# EAGLE library part ESP32 (library InternetRadio)
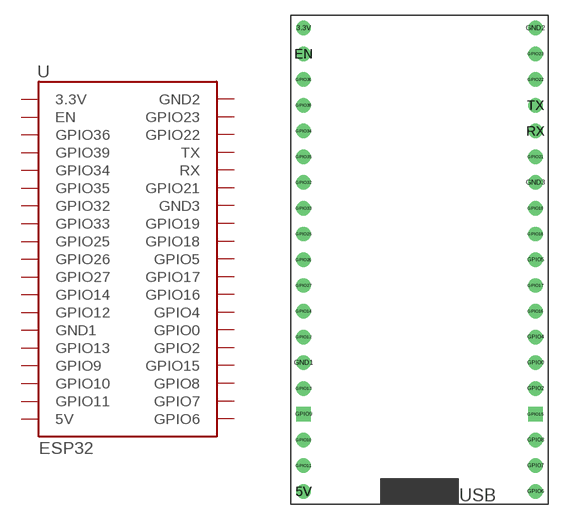
[diagram p1: symbol with the pads of ESP32; footprint ESP32]

Designator prefix -

## ESP32  [ESP32]
3.3V  3.3V
5V  5V
EN  EN
GND1  GND1
GND2  GND2
GND3  GND3
GPIO0  GPIO0
GPIO2  GPIO2
GPIO4  GPIO4
GPIO5  GPIO5
GPIO6  GPIO6
GPIO7  GPIO7
GPIO8  GPIO8
GPIO9  GPIO9
GPIO10  GPIO10
GPIO11  GPIO11
GPIO12  GPIO12
GPIO13  GPIO13
GPIO14  GPIO14
GPIO15  GPIO15
GPIO16  GPIO16
GPIO17  GPIO17
GPIO18  GPIO18
GPIO19  GPIO19
GPIO21  GPIO21
GPIO22  GPIO22
GPIO23  GPIO23
GPIO25  GPIO25
GPIO26  GPIO26
GPIO27  GPIO27
GPIO32  GPIO32
GPIO33  GPIO33
GPIO34  GPIO34
GPIO35  GPIO35
GPIO36  GPIO36
GPIO39  GPIO39
RX  RX
TX  TX

## Footprint ESP32 (pad centres in mm)
drill 0.914: 3.3V -11.43,21.59; 5V -11.43,-24.13; EN -11.43,19.05; GND1 -11.43,-11.43; GND2 11.43,21.59; GND3 11.43,6.35; GPIO0 11.43,-11.43; GPIO2 11.43,-13.97; GPIO4 11.43,-8.89; GPIO5 11.43,-1.27; GPIO6 11.43,-24.13; GPIO7 11.43,-21.59; GPIO8 11.43,-19.05; GPIO10 -11.43,-19.05; GPIO11 -11.43,-21.59; GPIO12 -11.43,-8.89; GPIO13 -11.43,-13.97; GPIO14 -11.43,-6.35; GPIO16 11.43,-6.35; GPIO17 11.43,-3.81; GPIO18 11.43,1.27; GPIO19 11.43,3.81; GPIO21 11.43,8.89; GPIO22 11.43,16.51; GPIO23 11.43,19.05; GPIO25 -11.43,1.27; GPIO26 -11.43,-1.27; GPIO27 -11.43,-3.81; GPIO32 -11.43,6.35; GPIO33 -11.43,3.81; GPIO34 -11.43,11.43; GPIO35 -11.43,8.89; GPIO36 -11.43,16.51; GPIO39 -11.43,13.97; RX 11.43,11.43; TX 11.43,13.97
drill 0.914 square: GPIO9 -11.43,-16.51; GPIO15 11.43,-16.51